# Altium schematic symbol library 2022_AESK_UAV.SchLib: 24 symbols
Pins are listed as number, name and electrical type; pins without a type are passive.

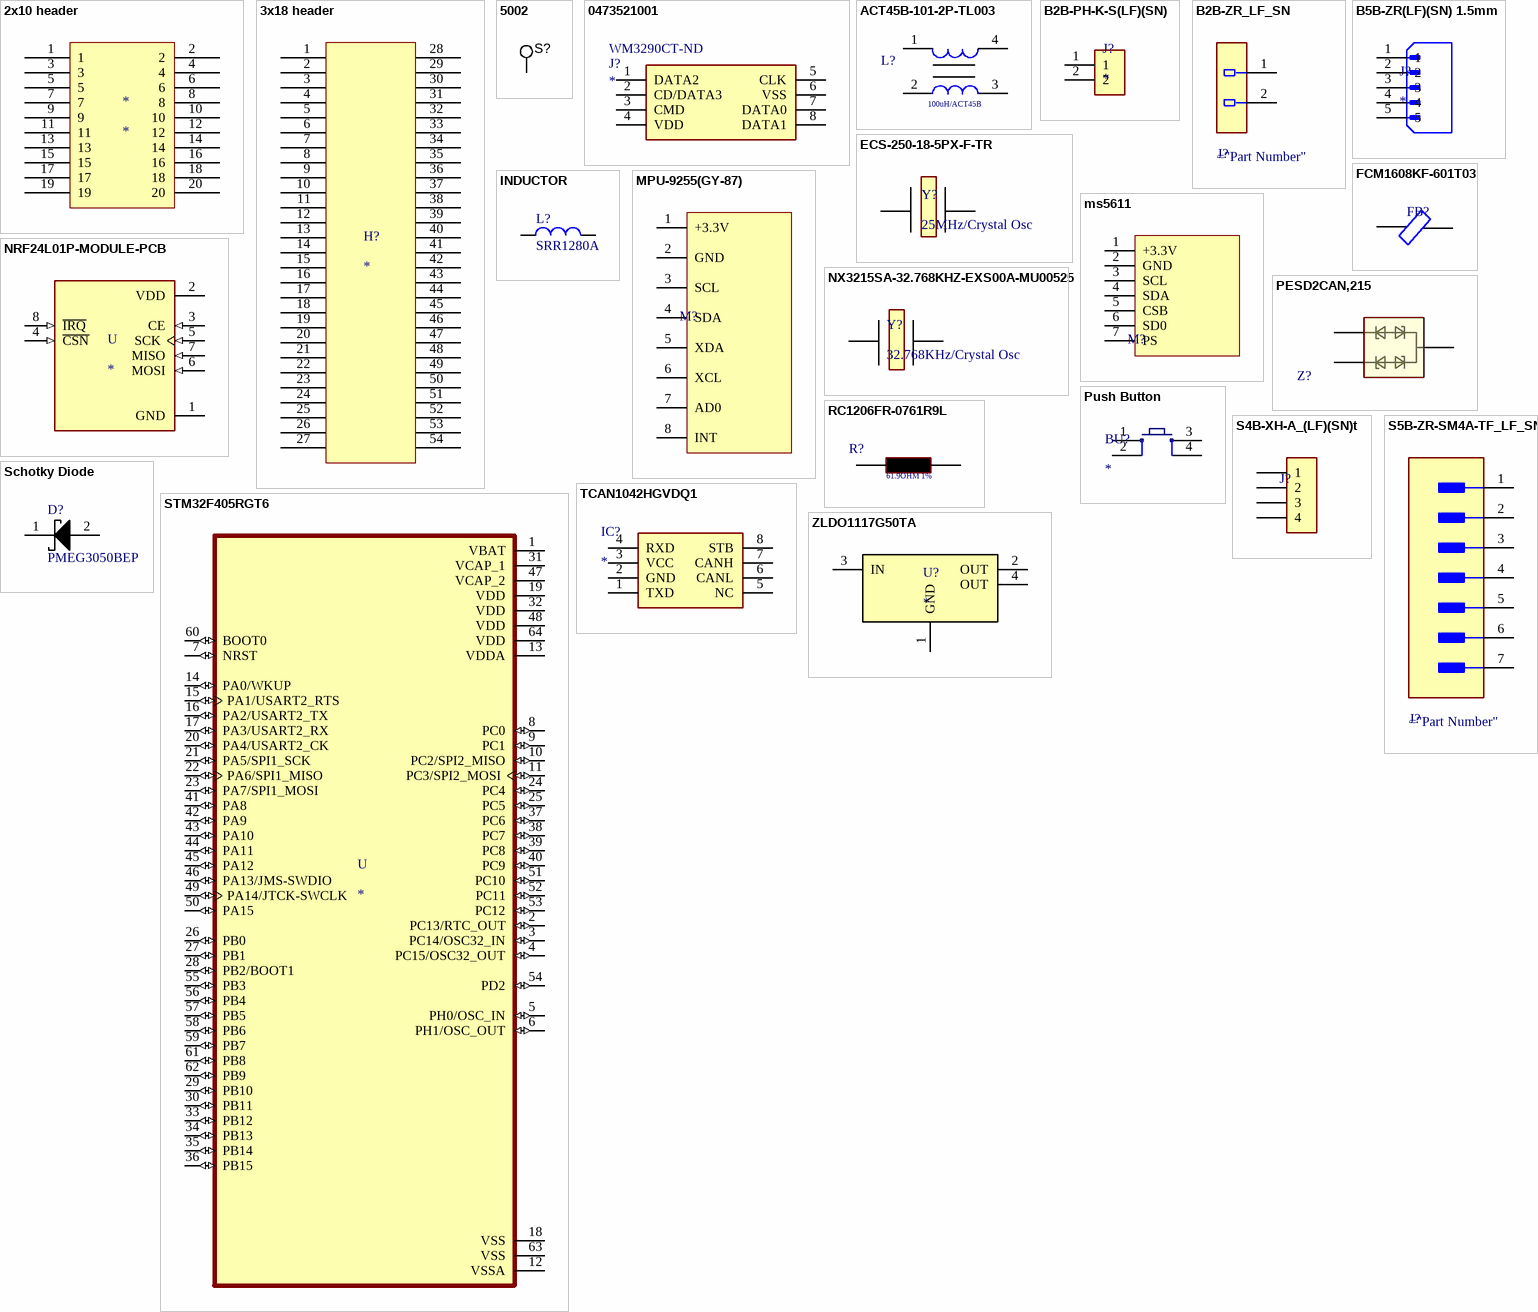
[diagram p0: symbols 2x10 header to ZLDO1117G50TA]

## 2x10 header
designator *
footprint PCBComponent_1
pins: 1, 2, 3, 4, 5, 6, 7, 8, 9, 10, 11, 12, 13, 14, 15, 16, 17, 18, 19, 20

## 3x18 header
designator H?
footprint 3x10 header
pins: 1, 2, 3, 4, 5, 6, 7, 8, 9, 10, 11, 12, 13, 14, 15, 16, 17, 18, 19, 20, 21, 22, 23, 24, 25, 26, 27, 28, 29, 30, 31, 32, 33, 34, 35, 36, 37, 38, 39, 40, 41, 42, 43, 44, 45, 46, 47, 48, 49, 50, 51, 52, 53, 54

## 5002
designator S?  (value not drawn)
Test Point, TH, Miniature, White; Manufacturer: Keystone; CompType: Test Point Loop; U/M: EA; RoHS: Y; DigiKeyPartNumber: 5002K-ND; Value: White; SymbolVersion: 2008-04-04; PartNumber: 5002; PackageReference: Keystone5002; ComponentLink1Description: Datasheet Link; ComponentLink1URL: http://www.keyelco.com/pdfs/M55p51.pdf; MountType: TH; Publisher: National Semiconductor; LatestRevisionDate: 2011-09-29; LatestRevisionNote: Removed DigiKeyPartNumber parameter.; Alternate Manufacturer: -; Alternate PartNumber: -; Supplier 1: Digi-Key; Supplier Part Number 1: 5002K-ND; Supplier 2: Newark; Supplier Part Number 2: 82H9632
footprint Keystone5002 (For Keystone 500x miniature loop terminals)
pins: 1

## 0473521001
designator J?  Supplier Part Number 1: WM3290CT-ND
microSD Card Module; Manufacturer_Name: Molex; Manufacturer_Part_Number: 0473521001; Datasheet Link: https://www.molex.com/pdm_docs/sd/473521001_sd.pdf; Supplier 1: Digi-Key
footprint 47352-1001
pins: 1 DATA2, 2 CD/DATA3, 3 CMD, 4 VDD, 5 CLK, 6 VSS, 7 DATA0, 8 DATA1

## ACT45B-101-2P-TL003
designator L?  Name: 100uH/ACT45B  (hidden comment: *)
Inductor; Manufacturer Name: TDK; Datasheet Link: https://product.tdk.com/info/en/catalog/datasheets/cmf_automotive_signal_act45b_en.pdf; Mouser Price/Stock: https://www.mouser.com/Search/Refine.aspx?Keyword=810-ACT45B1012PTL003
footprint TDK_ACT45B_2
pins: 1, 2, 3, 4

## B2B-PH-K-S(LF)(SN)
designator J?
Connector Header Through Hole 2 position 0.079 _2.00mm_; MF: JST Sales; MP: B2B-PH-K-S_LF__SN_; Package: None; Value: *; Price: None; Availability: Unavailable; SnapEDA_Link: https://www.snapeda.com/parts/B2B-PH-K-S%28LF%29%28SN%29/JST%20Sales%20America%20Inc./view-part/424103/?ref=snap
footprint JST_B2B-PH-K-S(LF)(SN)
pins: 1, 2

## B2B-ZR_LF_SN
designator J?  (value not drawn)
footprint JST_B2B-ZR_LF_SN_0
pins: 1, 2

## B5B-ZR(LF)(SN) 1.5mm
designator J?
Connector Header Through Hole 5 position 0.059 (1.50mm); MF: JST Sales; MP: B5B-ZR(LF)(SN); Package: None; Check_prices: https://www.snapeda.com/parts/B5B-ZR(LF)(SN)/JST%20Sales%20America%20Inc./view-part/214617/?ref=eda; Purchase-URL: https://pricing.snapeda.com/search/part/B5B-ZR(LF)(SN)/?ref=eda; Price: None; Value: *; Availability: Warning; SnapEDA_Link: https://www.snapeda.com/parts/B5B-ZR(LF)(SN)/JST%20Sales%20America%20Inc./view-part/214617/?ref=snap
footprint JST_B5B-ZR(LF)(SN) 1.5mm
pins: 1, 2, 3, 4, 5

## ECS-250-18-5PX-F-TR
designator Y?, comment 25MHz/Crystal Osc
Crystal or Oscillator
footprint 25MHz Crystal Oscillator
pins: 1, 2

## FCM1608KF-601T03
designator FB?, comment Ferrite Bead  (value not drawn)
footprint FCM1608KF-601T03
pins: 1, 2

## INDUCTOR
designator L?, comment SRR1280A
FIXED IND 33UH 3.5A 57 MOHM SMD; Manufacturer: Bourns; Manufacturer Part Number: SRR1280A-330M; Core Material: Ferrite; Tolerance: 20%; Saturation Current: 3.3A; Shielding: Shielded; Self Resonant Frequency: 9.5MHz; DC Resistance (DCR): 57mR; Test Frequency: 1kHz; Supplier 1: Digi-Key; Supplier Part Number 1: SRR1280A-330MCT-ND; Stock 1: 2026; Pricing 1: 1=1.45, 10=1.346, 100=0.9729 (USD); Mount: Surface Mount; Case/Package: Nonstandard; Min Operating Temperature: -40°C; Max Operating Temperature: 125°C; Package Quantity: 400; Packaging: Cut Tape; Current Rating: 3.5A; Inductance Tolerance: 20%; Inductance: 33uH; RMS Current (Irms): 3.5A; Military Standard: Not; Max DC Current: 3.5A; Length: 0.492inch; Height: 7.5mm; Width: 0.492inch; Height - Seated (Max): 0.315inch; Depth: 12.8mm; Ratings: AEC-Q200; REACH SVHC: No SVHC; ComponentLink1URL: http://www.bourns.com/docs/Product-Datasheets/SRR1280A.pdf?src-supplier=Digi-Key; ComponentLink1Description: http://www.bourns.com/docs/Product-Datasheets/SRR1280A.pdf?src-supplier=Digi-Key; ComponentLink2URL: http://www.bourns.com/data/global/pdfs/SRR1280A.pdf?src-supplier=Avnet; ComponentLink2Description: http://www.bourns.com/data/global/pdfs/SRR1280A.pdf?src-supplier=Avnet
footprint 1210 (2-Leads, Body 3,2x2,5mm, IPC Low Density,CAP, INDUCTOR, FERRITE BEAD)
footprint INDUCT-MSS1038 (Body 10,2mm x 10,5mm, INDUCTOR)
footprint INDUCT-MSS1278 (Body 12,3mm x 12,3mm, INDUCTOR)
footprint LPO4815 (Body 4,83mm x 4,6mm, INDUCTOR)
footprint MSS1278T (Precision Wire Wound Inductor, 2-Leads, Body 12,0x12,0mm, IPC Low Density, INDUCTOR)
footprint DR1040 (Precision Wire Wound Inductor, 2-Leads, Body 10,5x10,3mm, IPC Low Density, INDUCTOR)
footprint INDP185152X120M (Precision Wire Wound Inductor, 2-Leads, Body 18.5x15.2mm, IPC Low Density,INDUCTOR)
footprint INDP6060X45M (Precision Wire Wound Inductor, 2-Leads, Body 6.0x6.0mm, IPC Low Density, INDUCTOR)
footprint INDP100100X38M (Precision Wire Wound Inductor, 2-Leads, Body 10.0x10.0mm, IPC Low Density, INDUCTOR)
footprint PM2110 (Precision Wire Wound Inductor, 2-Leads, Body 30.5x25.4mm, IPC Low Density,INDUCTOR)
footprint 0805 (2.0 mm x 1.25 mm, CAP , INDUCTOR,RES)
footprint 01008 (Chip Inductor, 2-Leads, Body 2,5 * 2, IPC Low Density,INDUCTOR)
footprint 1816 (Chip Inductor, 2-Leads, Body 1,5*4,1mm, IPC Low Density,INDUCTOR)
footprint Inductor-SRR1280A (Shelded Power Inductor)
footprint INDP3838X18N (Precision Wire Wound Inductor, 2-Leads,Body 3,80x3,80mm, IPC Medium Density,INDUCTOR)
footprint 0402 (1.0mm x 0.5 mm, CAP, INDUCTOR,JUMP1,RES)
footprint 0603 (1.6mm x 0.8mm, CAP, INDUCTOR,JUMP1,RES)
footprint 1206 (3.2 mm x 1.6 mm, CAP, INDUCTOR,JUMP1,RES)
footprint INDP5250X22N (Precision Wire Wound Inductor, 2-Leads, Body 5,20x5,00mm, IPC Medium Density, INDUCTOR)
footprint SRR1280A
pins: 1, 2

## MPU-9255(GY-87)
designator M?, comment MPU-9255(resim ve supplier bilgileri mpu6050dir)  (value not drawn)
Manufacturer 1: TDK InvenSense; Manufacturer Part Number 1: MPU-6050EVB; Sensor Type: Accelerometer,Gyroscope,3 Axis; Interface: I2C; Evaluation Kit: Yes; ComponentLink1Description: MPU-9255(gyroscope/accellemeter/magnometer/barometer); ComponentLink1URL: https://pdf.direnc.net/upload/mpu-9255-datasheet.pdf; category: Sensor; Supplier 1: Digi-Key; Supplier Part Number 1: 1428-1008-ND; Stock 1: 2; Pricing 1: 1=56,00000, 5=50,75000, 10=48,12500, 25=46,55000 (USD); RoHS: Yes; Package Quantity: 1; ComponentLink2URL: https://store.invensense.com/datasheets/invensense/MPU-6000EVB.pdf?src-supplier=Digi-Key; ComponentLink2Description: https://store.invensense.com/datasheets/invensense/MPU-6000EVB.pdf?src-supplier=Digi-Key
footprint MPU-9255(GY-87)
pins: 1 +3.3V, 2 GND, 3 SCL, 4 SDA, 5 XDA, 6 XCL, 7 AD0, 8 INT

## ms5611
designator M?, comment MPU-9255(resim ve supplier bilgileri mpu6050dir)  (value not drawn)
Manufacturer 1: TDK InvenSense; Manufacturer Part Number 1: MPU-6050EVB; Sensor Type: Accelerometer,Gyroscope,3 Axis; Interface: I2C; Evaluation Kit: Yes; ComponentLink1Description: MPU-9255(gyroscope/accellemeter/magnometer/barometer); ComponentLink1URL: https://pdf.direnc.net/upload/mpu-9255-datasheet.pdf; category: Sensor; Supplier 1: Digi-Key; Supplier Part Number 1: 1428-1008-ND; Stock 1: 2; Pricing 1: 1=56,00000, 5=50,75000, 10=48,12500, 25=46,55000 (USD); RoHS: Yes; Package Quantity: 1; ComponentLink2URL: https://store.invensense.com/datasheets/invensense/MPU-6000EVB.pdf?src-supplier=Digi-Key; ComponentLink2Description: https://store.invensense.com/datasheets/invensense/MPU-6000EVB.pdf?src-supplier=Digi-Key
footprint MS5611
pins: 1 +3.3V, 2 GND, 3 SCL, 4 SDA, 5 CSB, 6 SD0, 7 PS

## NRF24L01P-MODULE-PCB
designator U
- Transceiver For Use With nRF24L01+; MP: NRF24L01P-MODULE-PCB; MF: Nordic Semiconductor; Package: None; Value: *; Availability: Bad; Price: None; SnapEDA_Link: https://www.snapeda.com/parts/NRF24L01P-MODULE-PCB/Nordic%20Semiconductor%20ASA/view-part/230534/?ref=snap; Mouser-Purchase-URL: https://snapeda.com/shop?store=Mouser&id=230534
footprint nrf
pins: 1 GND (power), 2 VDD (power), 3 CE (in), 4 ~{CSN} (in), 5 SCK (in), 6 MOSI (in), 7 MISO (in), 8 ~{IRQ} (in)

## NX3215SA-32.768KHZ-EXS00A-MU00525
designator Y?, comment 32.768KHz/Crystal Osc
Crystal or Oscillator; ComponentLink1Description: New link; ComponentLink1URL: *
footprint 32KhZ crystal oscillator
pins: 1, 2

## PESD2CAN,215
designator Z?  (value not drawn)
Zener Diode; Manufacturer_Name: Nexperia; Manufacturer_Part_Number: PESD2CAN,215; Datasheet Link: http://de.rs-online.com/webdocs/0b4d/0900766b80b4dbb6.pdf; Height: 1.1mm; Mouser Part Number: 771-PESD2CAN-T/R; Mouser Price/Stock: https://www.mouser.com/Search/Refine.aspx?Keyword=771-PESD2CAN-T%2FR; RS Part Number: 0508462; RS Price/Stock: http://uk.rs-online.com/web/p/products/0508462
footprint SOT95P230X110-3N
pins: 1, 2, 3

## Push Button
designator BU?
Smd Push Button; Satın Alma Linki: https://urun.n11.com/diger/mini-pushbutton-switch-smd-P227461537?gclid=Cj0KCQjwkoDmBRCcARIsAG3xzl8Y_-jeD7HocNM6lvuZ_rVp83568XPGtNzlPwXWLph8oCRqo0yh87UaApZYEALw_wcB&gclsrc=aw.ds
footprint button son
pins: 1, 2, 3, 4

## RC1206FR-0761R9L
designator R?  Name: 61.9OHM 1%  (hidden comment: *)
Resistor; Manufacturer_Name: Yageo; Manufacturer_Part_Number: RC1206FR-0761R9L; Datasheet Link: https://www.yageo.com/upload/media/product/productsearch/datasheet/rchip/PYu-RC_Group_51_RoHS_L_10.pdf; Height: 0.75mm; Mouser Part Number: 603-RC1206FR-0761R9L; Mouser Price/Stock: https://www.mouser.com.tr/ProductDetail/Yageo/RC1206FR-0761R9L?qs=afJZr%2F7kGG66Q9nyHBRVKQ==
footprint RESC3216X75N
pins: 1, 2

## S4B-XH-A_(LF)(SN)t
designator J?  (value not drawn)
Connector
footprint JST XH B4B-XH-A
pins: 1, 2, 3, 4

## S5B-ZR-SM4A-TF_LF_SN
designator J?  (value not drawn)
footprint JST_S5B-ZR-SM4A-TF_LF_SN_MFG
pins: 1, 2, 3, 4, 5, 6 MNT 1, 7 MNT 2

## Schotky Diode
designator D?, comment PMEG3050BEP
Schotky Diode; Manufacturer: Nexperia USA; Manufacturer Part Number: PMEG3050BEP,115; Supplier 1: Digi-Key; Supplier Part Number 1: 1727-5207-1-ND; Stock 1: 62590; Pricing 1: 1=0.44, 10=0.373, 100=0.2786, 500=0.2189, 1000=0.1692 (USD)
footprint SOD470X100-2N
pins: 1 K, 2 A

## STM32F405RGT6
designator U
ARMÂ® CortexÂ®-M4 STM32F4 Microcontroller IC 32-Bit 168MHz 1MB _1M x 8_ FLASH 64-LQFP _10x10_; MF: STMicroelectronics; MP: STM32F405RGT6; Package: LQFP-64 STMicroelectronics; Digi-Key_Purchase_URL: https://www.digikey.com/product-detail/en/stmicroelectronics/STM32F405RGT6/497-11767-ND/2754208?utm_source=snapeda&utm_medium=aggregator&utm_campaign=symbol; Value: *; SnapEDA_Link: https://www.snapeda.com/parts/STM32F405RGT6/STMicroelectronics/view-part/105502/?ref=snap; Digi-Key_Part_Number: 497-11767-ND
footprint QFP50P1200X1200X160-64N
pins: 1 VBAT (power), 2 PC13/RTC_OUT (io), 3 PC14/OSC32_IN (io), 4 PC15/OSC32_OUT (io), 5 PH0/OSC_IN (io), 6 PH1/OSC_OUT (io), 7 NRST (io), 8 PC0 (io), 9 PC1 (io), 10 PC2/SPI2_MISO (io), 11 PC3/SPI2_MOSI (io), 12 VSSA (power), 13 VDDA (power), 14 PA0/WKUP (io), 15 PA1/USART2_RTS (io), 16 PA2/USART2_TX (io), 17 PA3/USART2_RX (io), 18 VSS (power), 19 VDD (power), 20 PA4/USART2_CK (io), 21 PA5/SPI1_SCK (io), 22 PA6/SPI1_MISO (io), 23 PA7/SPI1_MOSI (io), 24 PC4 (io), 25 PC5 (io), 26 PB0 (io), 27 PB1 (io), 28 PB2/BOOT1 (io), 29 PB10 (io), 30 PB11 (io), 31 VCAP_1 (power), 32 VDD (power), 33 PB12 (io), 34 PB13 (io), 35 PB14 (io), 36 PB15 (io), 37 PC6 (io), 38 PC7 (io), 39 PC8 (io), 40 PC9 (io), 41 PA8 (io), 42 PA9 (io), 43 PA10 (io), 44 PA11 (io), 45 PA12 (io), 46 PA13/JMS-SWDIO (io), 47 VCAP_2 (power), 48 VDD (power), 49 PA14/JTCK-SWCLK (io), 50 PA15 (io), 51 PC10 (io), 52 PC11 (io), 53 PC12 (io), 54 PD2 (io), 55 PB3 (io), 56 PB4 (io), 57 PB5 (io), 58 PB6 (io), 59 PB7 (io), 60 BOOT0 (io), 61 PB8 (io), 62 PB9 (io), 63 VSS (power), 64 VDD (power)

## TCAN1042HGVDQ1
designator IC?
Integrated Circuit; Manufacturer_Name: Texas Instruments; Manufacturer_Part_Number: TCAN1042HDRQ1; Datasheet Link: http://www.ti.com/lit/gpn/tcan1042hgv-q1; Height: 1.75mm; Mouser Part Number: 595-TCAN1042HGVDQ1; Mouser Price/Stock: https://www.mouser.com/Search/Refine.aspx?Keyword=595-TCAN1042HGVDQ1; RS Part Number: 1330710P; RS Price/Stock: http://uk.rs-online.com/web/p/products/1330710P; Supplier 1: Digi-Key; Supplier Part Number 1: 296-47722-ND
footprint SOIC127P600X175-8N
pins: 1 TXD, 2 GND (power), 3 VCC (power), 4 RXD, 5 NC (power), 6 CANL, 7 CANH, 8 STB

## ZLDO1117G50TA
designator U?
IC REG LDO 5V 1A SOT223
footprint 1117
pins: 1 GND (power), 2 OUT (power), 3 IN (power), 4 OUT (power)